# Altium footprint library Connectors.PcbLib: 58 footprints (part 2 of 4)
Each footprint in its own frame and in the unit in brackets; x right, y up, seen from the top. Pads: shape width x height; smd on the part's side, far side on the other; paste and mask are expansions set on the pad; w line width, h text height; cw(c..) or ccw(c..) is an arc to the next point about the centre after c.
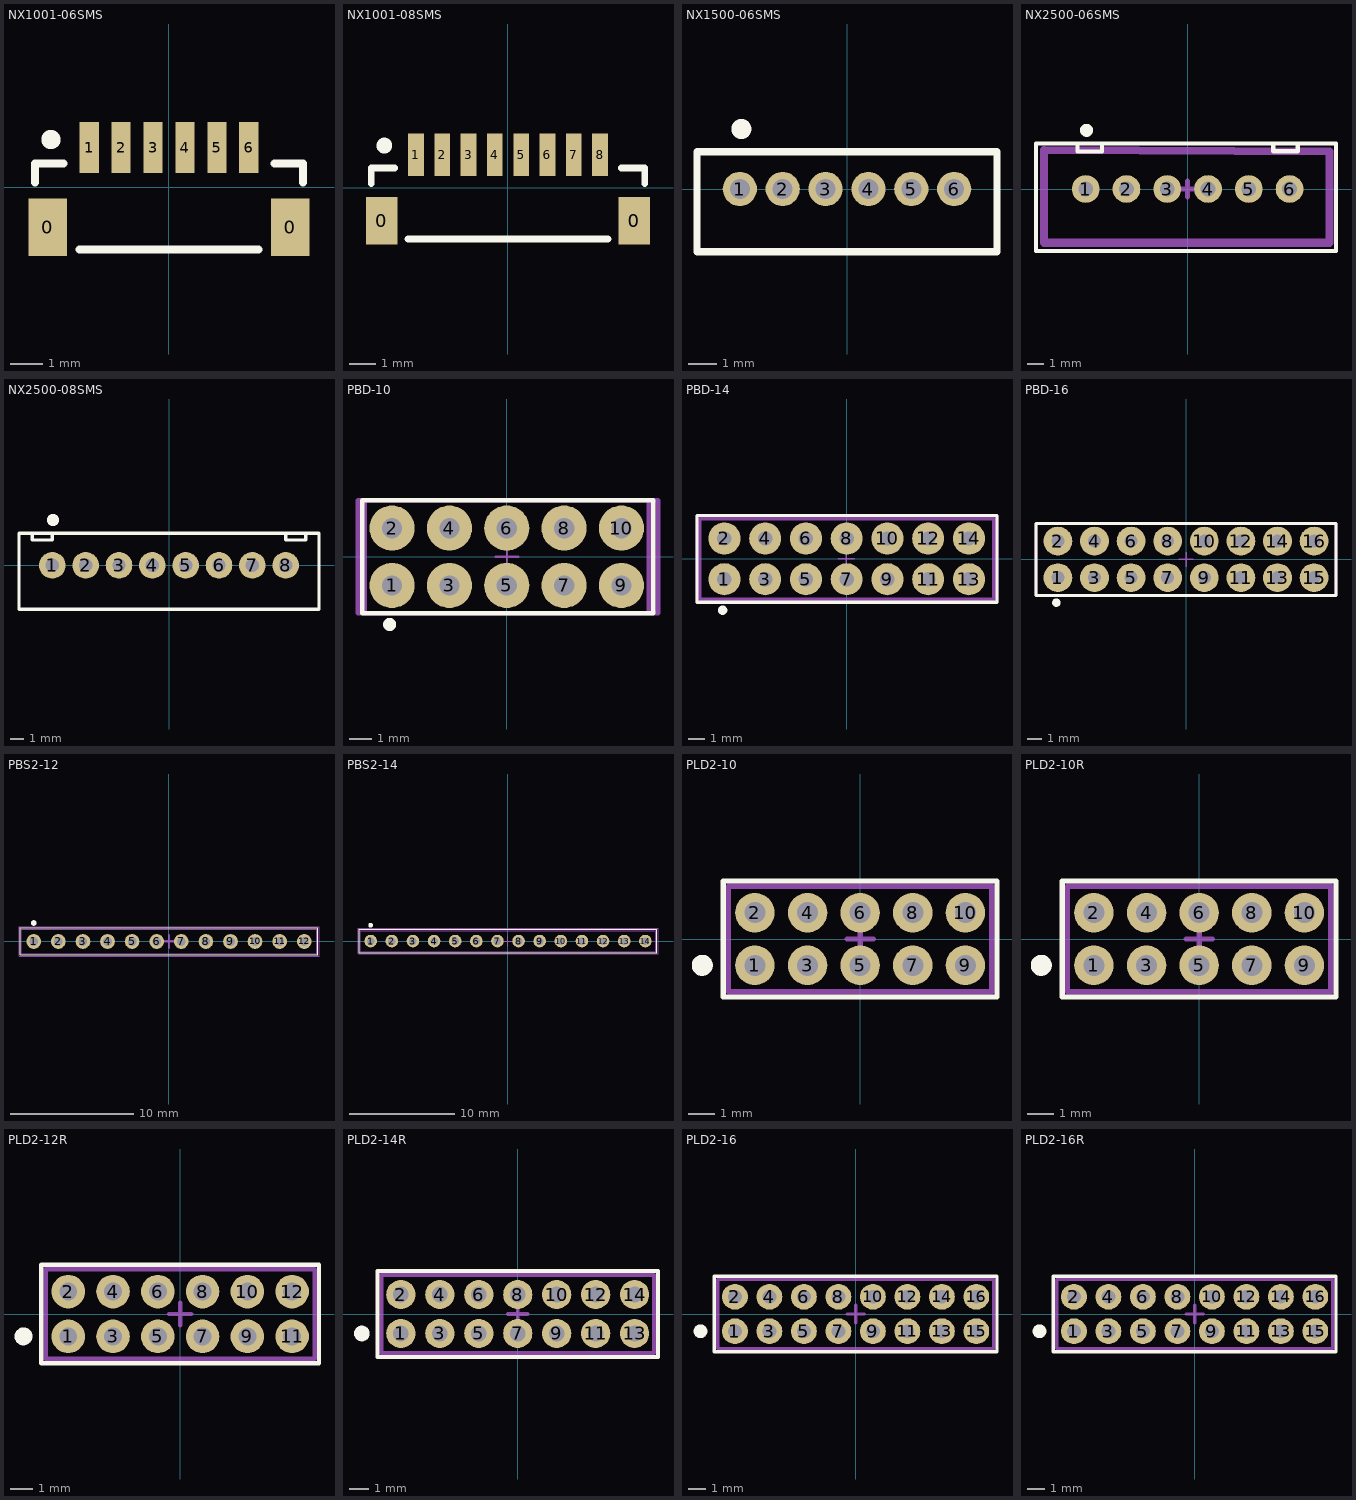
[diagram p1: the footprints below, top view; thin cyan lines are the x and y axes]

## NX1001-06SMS [mm]
pads (8):
  rect 1.2x1.8 smd: 0(-3.8,-1.25) 0(3.8,-1.25)
  rect 0.6x1.6 smd: 1(-2.5,1.25) 2(-1.5,1.25) 3(-0.5,1.25) 4(0.5,1.25) 5(1.5,1.25) 6(2.5,1.25)
Top Overlay:
  circle w0.5: c-3.7,1.5 r0.05
  lines w0.254: -4.2,0.15 -4.2,0.75 -3.3,0.75 ; -2.8,-1.95 2.8,-1.95 ; 3.3,0.75 4.2,0.75 4.2,0.15

## NX1001-08SMS [mm]
pads (10):
  rect 1.2x1.8 smd: 0(-4.8,-1.25) 0(4.8,-1.25)
  rect 0.6x1.6 smd: 1(-3.5,1.25) 2(-2.5,1.25) 3(-1.5,1.25) 4(-0.5,1.25) 5(0.5,1.25) 6(1.5,1.25) 7(2.5,1.25) 8(3.5,1.25)
Top Overlay:
  circle w0.5: c-4.7,1.6 r0.05
  lines w0.254: -5.2,0.15 -5.2,0.75 -4.3,0.75 ; -3.8,-1.95 3.8,-1.95 ; 4.3,0.75 5.2,0.75 5.2,0.15

## NX1500-06SMS [mm]
pads (6):
  round 1.2 hole 0.7: 1(-3.75,0) 2(-2.25,0) 3(-0.75,0) 4(0.75,0) 5(2.25,0) 6(3.75,0)
Top Overlay:
  circle w0.5: c-3.7,2.1 r0.1
  lines w0.254: -5.25,-2.2 -5.25,1.3 5.25,1.3 5.25,-2.2 -5.25,-2.2

## NX2500-06SMS [mm]
pads (6):
  round 1.7 hole 0.9: 1(-6.25,0) 2(-3.75,0) 3(-1.25,0) 4(1.25,0) 5(3.75,0) 6(6.25,0)
Top Overlay:
  circle w0.4: c-6.2,3.6 r0.2
  lines w0.254: -6.75,2.7 -6.75,2.3 -5.25,2.3 -5.25,2.7 ; 5.25,2.713 5.25,2.313 6.75,2.313 6.75,2.713 ; -9.3,-3.8 -9.3,2.8 9.1,2.8 9.1,-3.8 -9.3,-3.8
Mechanical 11:
  lines w0.3: -0.5,0 0.5,0 ; 0,-0.5 0,0.5
  lines w0.5: -8.8,-3.3 -8.8,2.4 8.7,2.3 8.7,-3.3 -8.8,-3.3
3D body "User Library-B6B-XH-A.STEP": height 7, standoff -3.4, extent -8.7,-3.35 8.7,2.4

## NX2500-08SMS [mm]
pads (8):
  round 2 hole 1: 1(-8.75,0) 2(-6.25,0) 3(-3.75,0) 4(-1.25,0) 5(1.25,0) 6(3.75,0) 7(6.25,0) 8(8.75,0)
Top Overlay:
  circle w0.7: c-8.7,3.4 r0.1
  lines w0.254: -10.25,2.4 -10.25,1.9 -8.75,1.9 -8.75,2.4 ; 8.75,2.3 8.75,1.9 10.25,1.9 10.25,2.3 ; -11.25,-3.3 11.25,-3.3 11.25,2.4 -11.25,2.4 -11.25,-3.3

## PBD-10 [mm] "PBD2.54mm pitch"
pads (10):
  round 2 hole 0.9: 1(-5.08,-1.27) 2(-5.08,1.27) 3(-2.54,-1.27) 4(-2.54,1.27) 5(0,-1.27) 6(0,1.27) 7(2.54,-1.27) 8(2.54,1.27) 9(5.08,-1.27) 10(5.08,1.27)
Top Overlay:
  circle w0.3: c-5.19,-3 r0.141
  lines w0.2: -6.4,-2.5 -6.4,2.5 6.5,2.5 6.5,-2.5 -6.4,-2.5
AssemblyTop:
  lines w0.2: -6.3,-2.5 -6.3,2.5 6.3,2.5 6.3,-2.5 -6.3,-2.5
InstallationTop:
  lines w0.1: -0.49,0 0.51,0 ; 0.01,-0.5 0.01,0.5
  lines w0.2: -6.59,-2.5 -6.59,2.5 6.7,2.5 6.7,-2.5 -6.59,-2.5
3D body "User Library-PBD2_54-10.step": height 8.4, standoff -2.7, extent -6.35,-2.54 6.35,2.54

## PBD-14 [mm] "PBD 2.54mm pitch"
pads (14):
  round 2 hole 0.9: 1(-7.62,-1.27) 2(-7.62,1.27) 3(-5.08,-1.27) 4(-5.08,1.27) 5(-2.54,-1.27) 6(-2.54,1.27) 7(0,-1.27) 8(0,1.27) 9(2.54,-1.27) 10(2.54,1.27) 11(5.08,-1.27) 12(5.08,1.27) 13(7.62,-1.27) 14(7.62,1.27)
Top Overlay:
  circle w0.3: c-7.73,-3.2 r0.141
  lines w0.2: -9.33,-2.7 9.37,-2.7 9.37,2.7 -9.33,2.7 -9.33,-2.7
AssemblyTop:
  lines w0.2: -9.14,-2.5 9.17,-2.5 9.17,2.5 -9.14,2.5 -9.14,-2.5
InstallationTop:
  lines w0.1: -0.53,0 0.47,0 ; -0.03,-0.5 -0.03,0.5
  lines w0.2: -9.33,-2.7 9.37,-2.7 9.37,2.7 -9.33,2.7 -9.33,-2.7

## PBD-16 [mm] "PBD 2.54mm pitch"
pads (16):
  round 2 hole 0.9: 1(-8.89,-1.27) 2(-8.89,1.27) 3(-6.35,-1.27) 4(-6.35,1.27) 5(-3.81,-1.27) 6(-3.81,1.27) 7(-1.27,-1.27) 8(-1.27,1.27) 9(1.27,-1.27) 10(1.27,1.27) 11(3.81,-1.27) 12(3.81,1.27) 13(6.35,-1.27) 14(6.35,1.27) 15(8.89,-1.27) 16(8.89,1.27)
Top Overlay:
  circle w0.3: c-9,-3 r0.141
  lines w0.2: -10.4,-2.5 10.4,-2.5 10.4,2.5 -10.4,2.5 -10.4,-2.5
AssemblyTop:
  lines w0.2: -10.41,-2.5 10.41,-2.5 10.41,2.5 -10.41,2.5 -10.41,-2.5
InstallationTop:
  lines w0.1: -0.5,0 0.5,0 ; 0,-0.5 0,0.5
  lines w0.2: -10.4,-2.5 10.4,-2.5 10.4,2.5 -10.4,2.5 -10.4,-2.5
3D body "User Library-PBD2_54-8.step": height 8.5, standoff -3, extent -10.41,-2.5 10.41,2.5

## PBS2-12 [mm]
pads (12):
  round 1.2 hole 0.7: 1(-11,0) 2(-9,0) 3(-7,0) 4(-5,0) 5(-3,0) 6(-1,0) 7(1,0) 8(3,0) 9(5,0) 10(7,0) 11(9,0) 12(11,0)
Top Overlay:
  circle w0.254: c-11,1.5 r0.1
  lines w0.1: -12.1,-1.1 -12.1,1.1 12.1,1.1 12.1,-1.1 -12.1,-1.1
AssemblyTop:
  lines w0.1: -12,-1 -12,0.8 -12,1 12,1 12,-1 -12,-1
InstallationTop:
  lines w0.1: -12.2,-1.2 -12.2,1.2 12.2,1.2 12.2,-1.2 -12.2,-1.2
  lines w0.2: -0.5,0 0.5,0 ; 0,-0.5 0,0.5
3D body "User Library-PBS2-12.STEP": height 4.5, standoff -2.95, extent -12,-1 12,1

## PBS2-14 [mm]
pads (14):
  round 1.2 hole 0.7: 1(-13,0) 2(-11,0) 3(-9,0) 4(-7,0) 5(-5,0) 6(-3,0) 7(-1,0) 8(1,0) 9(3,0) 10(5,0) 11(7,0) 12(9,0) 13(11,0) 14(13,0)
Top Overlay:
  circle w0.254: c-13,1.5 r0.1
  lines w0.1: -14.1,-1.1 -14.1,1.1 14.1,1.1 14.1,-1.1 -14.1,-1.1
AssemblyTop:
  lines w0.1: -14,-1 -14,0.8 -14,1 14,1 14,-1 -14,-1
InstallationTop:
  lines w0.05: -0.5,0 0.5,0 ; 0,-0.5 0,0.5
  lines w0.1: -14.2,-1.2 -14.2,1.2 14.2,1.2 14.2,-1.2 -14.2,-1.2
3D body "User Library-PBS2-12.STEP": height 4.5, standoff -2.95, extent -10,-1 14,1
3D body "User Library-PBS2-12.STEP": height 4.5, standoff -2.95, extent -14,-1 10,1

## PLD2-10 [mm]
pads (10):
  round 1.5 hole 0.8: 1(-4,-1) 2(-4,1) 3(-2,-1) 4(-2,1) 5(0,-1) 6(0,1) 7(2,-1) 8(2,1) 9(4,-1) 10(4,1)
Top Overlay:
  circle w0.4: c-6,-1 r0.2
  lines w0.2: -5.2,-2.2 5.2,-2.2 5.2,2.2 -5.2,2.2 -5.2,-2.2
AssemblyTop:
  lines w0.2: -5,-2 5,-2 5,2 -5,2 -5,-2
InstallationTop:
  lines w0.2: -0.5,0 0.5,0 ; 0,-0.5 0,0.5

## PLD2-10R [mm]
pads (10):
  round 1.5 hole 0.8: 1(-4,-1) 2(-4,1) 3(-2,-1) 4(-2,1) 5(0,-1) 6(0,1) 7(2,-1) 8(2,1) 9(4,-1) 10(4,1)
Top Overlay:
  circle w0.4: c-6,-1 r0.2
  lines w0.2: -5.2,-2.2 -5.2,2.2 5.2,2.2 5.2,-2.2 -5.2,-2.2
AssemblyTop:
  lines w0.2: -5,-2 -5,2 5,2 5,-2 -5,-2
InstallationTop:
  lines w0.2: -0.5,0 0.5,0 ; 0,-0.5 0,0.5
3D body "User Library-PLD2-xx-R (1).step": height 5.25, standoff -4, extent -5,-4.8 5,2

## PLD2-12R [mm]
pads (12):
  round 1.5 hole 0.8: 1(-5,-1) 2(-5,1) 3(-3,-1) 4(-3,1) 5(-1,-1) 6(-1,1) 7(1,-1) 8(1,1) 9(3,-1) 10(3,1) 11(5,-1) 12(5,1)
Top Overlay:
  circle w0.4: c-7,-1 r0.2
  lines w0.2: -6.2,-2.2 6.2,-2.2 6.2,2.2 -6.2,2.2 -6.2,-2.2
AssemblyTop:
  lines w0.2: -6,-2 6,-2 6,2 -6,2 -6,-2
InstallationTop:
  lines w0.2: -0.5,0 0.5,0 ; 0,-0.5 0,0.5
3D body "User Library-PLD2-xx-R.step": height 5.25, standoff -4, extent -6,-4.8 6,2

## PLD2-14R [mm]
pads (14):
  round 1.5 hole 0.8: 1(-6,-1) 2(-6,1) 3(-4,-1) 4(-4,1) 5(-2,-1) 6(-2,1) 7(0,-1) 8(0,1) 9(2,-1) 10(2,1) 11(4,-1) 12(4,1) 13(6,-1) 14(6,1)
Top Overlay:
  circle w0.4: c-8,-1 r0.2
  lines w0.2: -7.2,-2.2 -7.2,2.2 7.2,2.2 7.2,-2.2 -7.2,-2.2
AssemblyTop:
  lines w0.2: 6.9,2 -7,2 -7,-2 7,-2 7,2 6.9,2 ; 6.9,2 6.9,2
InstallationTop:
  lines w0.2: -0.5,0 0.5,0 ; 0,-0.5 0,0.5
3D body "User Library-PLD2-xx-R (1).step": height 5.25, standoff -4, extent -7,-4.8 7,2

## PLD2-16 [mm]
pads (16):
  round 1.5 hole 0.8: 1(-7,-1) 2(-7,1) 3(-5,-1) 4(-5,1) 5(-3,-1) 6(-3,1) 7(-1,-1) 8(-1,1) 9(1,-1) 10(1,1) 11(3,-1) 12(3,1) 13(5,-1) 14(5,1) 15(7,-1) 16(7,1)
Top Overlay:
  circle w0.4: c-9,-1 r0.2
  lines w0.2: -8.2,-2.2 -8.2,2.2 8.2,2.2 8.2,-2.2 -8.2,-2.2
AssemblyTop:
  lines w0.2: 8,-2 -8,-2 -8,2 8,2 ; 8,-2 8,-2 ; 8,-2 8,2 ; 8,2 8,2 ; 8,2 8,2
InstallationTop:
  lines w0.2: -0.5,0 0.5,0 ; 0,-0.5 0,0.5

## PLD2-16R [mm]
pads (16):
  round 1.5 hole 0.8: 1(-7,-1) 2(-7,1) 3(-5,-1) 4(-5,1) 5(-3,-1) 6(-3,1) 7(-1,-1) 8(-1,1) 9(1,-1) 10(1,1) 11(3,-1) 12(3,1) 13(5,-1) 14(5,1) 15(7,-1) 16(7,1)
Top Overlay:
  circle w0.4: c-9,-1 r0.2
  lines w0.2: -8.2,-2.2 8.2,-2.2 8.2,2.2 -8.2,2.2 -8.2,-2.2
AssemblyTop:
  lines w0.2: 8,-2 8,2 ; 8,-2 8,-2 ; 8,-2 -8,-2 -8,2 8,2 ; 8,2 8,2 ; 8,2 8,2
InstallationTop:
  lines w0.2: -0.5,0 0.5,0 ; 0,-0.5 0,0.5
3D body "User Library-PLD2-xx-R.step": height 5.25, standoff -4, extent -8,-4.8 8,2